# EAGLE library part 15EDGRC-3.81-16P (library con-degson)
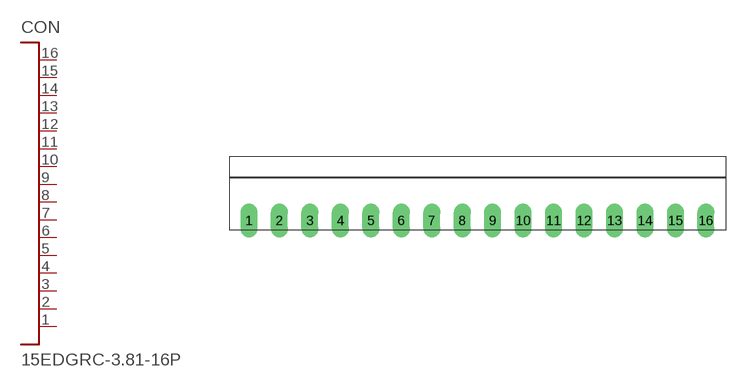
[diagram p33: symbol with the pads of 15EDGRC-3.81-16P; footprint 15EDGRC-3.81-16P]

Designator prefix CON

## 15EDGRC-3.81-16P  [15EDGRC-3.81-16P]
1  P$1
2  P$2
3  P$3
4  P$4
5  P$5
6  P$6
7  P$7
8  P$8
9  P$9
10  P$10
11  P$11
12  P$12
13  P$13
14  P$14
15  P$15
16  P$16

## Footprint 15EDGRC-3.81-16P (pad centres in mm)
drill 1.4 long: 1 -26.67,0; 2 -22.86,0; 3 -19.05,0; 4 -15.24,0; 5 -11.43,0; 6 -7.62,0; 7 -3.81,0; 8 0,0; 9 3.81,0; 10 7.62,0; 11 11.43,0; 12 15.24,0; 13 19.05,0; 14 22.86,0; 15 26.67,0; 16 30.48,0